# EAGLE library part TINY2313* (library dl)
8-bit AVR Microcontroller with 2K Bytes Flash Source: http://www.atmel.com .. doc1477.pdf
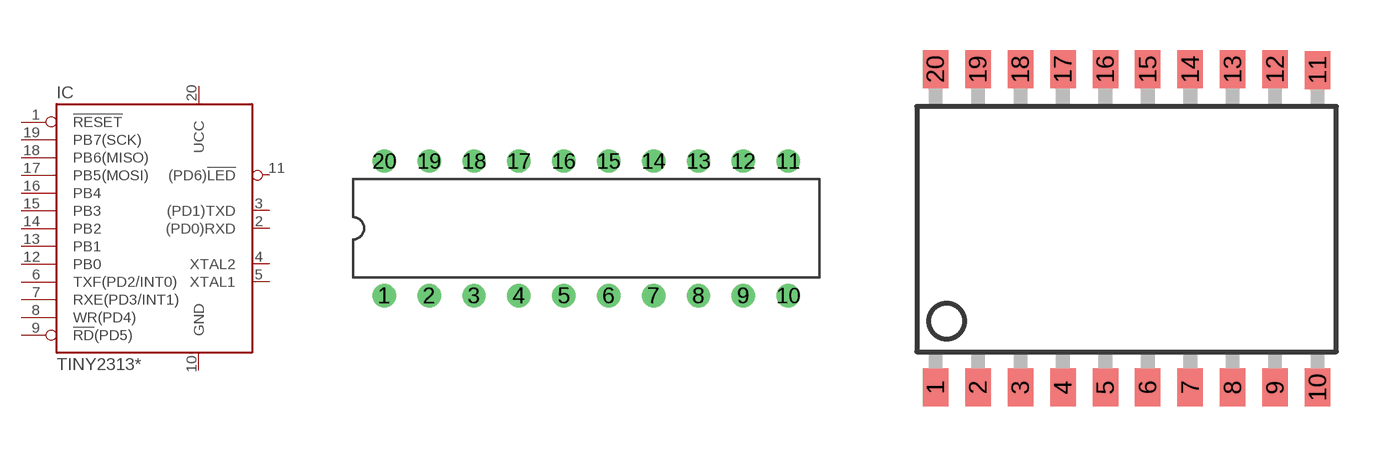
[diagram p8: symbol with the pads of DIL20; footprints DIL20, SO20L]

Designator prefix IC

## TINY2313-16PU, TINY2313A-20PU, TINY2313L-10PU  [DIL20]
1  !RESET
2  (PD0)RXD  in
3  (PD1)TXD  out
4  XTAL2  out
5  XTAL1  in
6  TXF(PD2/INT0)  in
7  RXE(PD3/INT1)  in
8  WR(PD4)  out
9  !RD!(PD5)  out
10  GND  pwr
11  (PD6)!LED  out
12  PB0
13  PB1
14  PB2
15  PB3
16  PB4
17  PB5(MOSI)
18  PB6(MISO)
19  PB7(SCK)
20  UCC  pwr

## TINY2313-16SU, TINY2313A-20SU, TINY2313L-10SU  [SO20L]
Pads as for DIL20

## TINY2313-16MJ, TINY2313L-10MJ  [QFN32]
2  XTAL2  out
3  XTAL1  in
6  TXF(PD2/INT0)  in
9  RXE(PD3/INT1)  in
10  WR(PD4)  out
11  !RD!(PD5)  out
12  GND  pwr
13  (PD6)!LED  out
14  PB0
15  PB1
18  PB2
19  PB3
23  PB4
26  PB5(MOSI)
27  PB6(MISO)
28  PB7(SCK)
29  UCC  pwr
30  !RESET
31  (PD0)RXD  in
32  (PD1)TXD  out

## TINY2313MU  [QFN20]
9  (PD1)TXD  out
10  XTAL2  out
11  XTAL1  in
12  TXF(PD2/INT0)  in
13  RXE(PD3/INT1)  in
14  WR(PD4)  out
15  !RD!(PD5)  out
16  GND  pwr
17  (PD6)!LED  out
18  PB0
19  PB1
20  PB2
21  PB3
22  PB4
23  PB5(MOSI)
24  PB6(MISO)
25  PB7(SCK)
26  UCC  pwr
27  !RESET
28  (PD0)RXD  in

## TINY2313MMH  [QFN20-45]
Pads as for QFN20

## Footprint DIL20 (pad centres in mm)
DIL e=2,54mm, w=7,62mm
drill 0.813 round: 1 -11.43,-3.81; 2 -8.89,-3.81; 3 -6.35,-3.81; 4 -3.81,-3.81; 5 -1.27,-3.81; 6 1.27,-3.81; 7 3.81,-3.81; 8 6.35,-3.81; 9 8.89,-3.81; 10 11.43,-3.81; 11 11.43,3.81; 12 8.89,3.81; 13 6.35,3.81; 14 3.81,3.81; 15 1.27,3.81; 16 -1.27,3.81; 17 -3.81,3.81; 18 -6.35,3.81; 19 -8.89,3.81; 20 -11.43,3.81

## Footprint SO20L (pad centres in mm)
SMD-Gehäuse e=1,27mm, w=10,16mm
smd 0.762 x 1.143: 1 -5.715,-4.813; 2 -4.445,-4.813; 3 -3.175,-4.813; 4 -1.905,-4.813; 5 -0.635,-4.813; 6 0.635,-4.813; 7 1.905,-4.813; 8 3.175,-4.813; 9 4.445,-4.813; 10 5.715,-4.813; 11 5.715,4.686; 12 4.445,4.712; 13 3.175,4.712; 14 1.905,4.712; 15 0.635,4.712; 16 -0.635,4.712; 17 -1.905,4.712; 18 -3.175,4.712; 19 -4.445,4.712; 20 -5.715,4.712

## Footprint QFN32 (pad centres in mm)
QFN-32 e=0,5mm w=5mm Sowohl ATtiny2313-xxMJ als auch FT245RQ
smd 0.7 x 0.3: 1 -2.35,1.75; 2 -2.35,1.25; 3 -2.35,0.75; 4 -2.35,0.25; 5 -2.35,-0.25; 6 -2.35,-0.75; 7 -2.35,-1.25; 8 -2.35,-1.75; 17 2.35,-1.75; 18 2.35,-1.25; 19 2.35,-0.75; 20 2.35,-0.25; 21 2.35,0.25; 22 2.35,0.75; 23 2.35,1.25; 24 2.35,1.75
smd 0.3 x 0.7: 9 -1.75,-2.35; 10 -1.25,-2.35; 11 -0.75,-2.35; 12 -0.25,-2.35; 13 0.25,-2.35; 14 0.75,-2.35; 15 1.25,-2.35; 16 1.75,-2.35; 25 1.75,2.35; 26 1.25,2.35; 27 0.75,2.35; 28 0.25,2.35; 29 -0.25,2.35; 30 -0.75,2.35; 31 -1.25,2.35; 32 -1.75,2.35

## Footprint QFN20 (pad centres in mm)
QFN-20 e=0,5 w=4 ATtiny2313A-20MU
smd 0.3 x 0.7: 9 -1,-1.85; 10 -0.5,-1.85; 11 0,-1.85; 12 0.5,-1.85; 13 1,-1.85; 19 1,1.85; 20 0.5,1.85; 21 0,1.85; 22 -0.5,1.85; 23 -1,1.85
smd 0.7 x 0.3: 14 1.85,-1; 15 1.85,-0.5; 16 1.85,0; 17 1.85,0.5; 18 1.85,1; 24 -1.85,1; 25 -1.85,0.5; 26 -1.85,0; 27 -1.85,-0.5; 28 -1.85,-1
smd 2.6 x 2.6: P$1 0,0

## Footprint QFN20-45 (pad centres in mm)
QFN-20 e=0,45 w=3 ATtiny2313A-20MMH
smd 0.22 x 0.8: 9 -0.9,-1.575; 10 -0.45,-1.575; 11 0,-1.575; 12 0.45,-1.575; 13 0.9,-1.575; 19 0.9,1.575; 20 0.45,1.575; 21 0,1.575; 22 -0.45,1.575; 23 -0.9,1.575
smd 0.8 x 0.22: 14 1.575,-0.9; 15 1.575,-0.45; 16 1.575,0; 17 1.575,0.45; 18 1.575,0.9; 24 -1.575,0.9; 25 -1.575,0.45; 26 -1.575,0; 27 -1.575,-0.45; 28 -1.575,-0.9
smd 1.55 x 1.55: P$1 0,0